# Altium schematic symbol library Conn-6pos.SchLib: 1 symbol
Pins are listed as number, name and electrical type; pins without a type are passive.

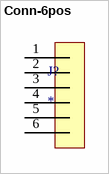
[diagram p0: symbol Conn-6pos]

## Conn-6pos
designator J?
pins: 1, 2, 3, 4, 5, 6